# Altium schematic symbol library MOSFET-NCH.Schlib: 1 symbol
Pins are listed as number, name and electrical type; pins without a type are passive.

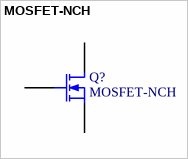
[diagram p0: symbol MOSFET-NCH]

## MOSFET-NCH
designator Q?
N-Channel MOSFET
pins: 1 G, 2 S, 3 D